# Altium footprint library VioletofSun.PcbLib: 319 footprints (part 13 of 20)
Each footprint in its own frame and in the unit in brackets; x right, y up, seen from the top. Pads: shape width x height; smd on the part's side, far side on the other; paste and mask are expansions set on the pad; w line width, h text height; cw(c..) or ccw(c..) is an arc to the next point about the centre after c.
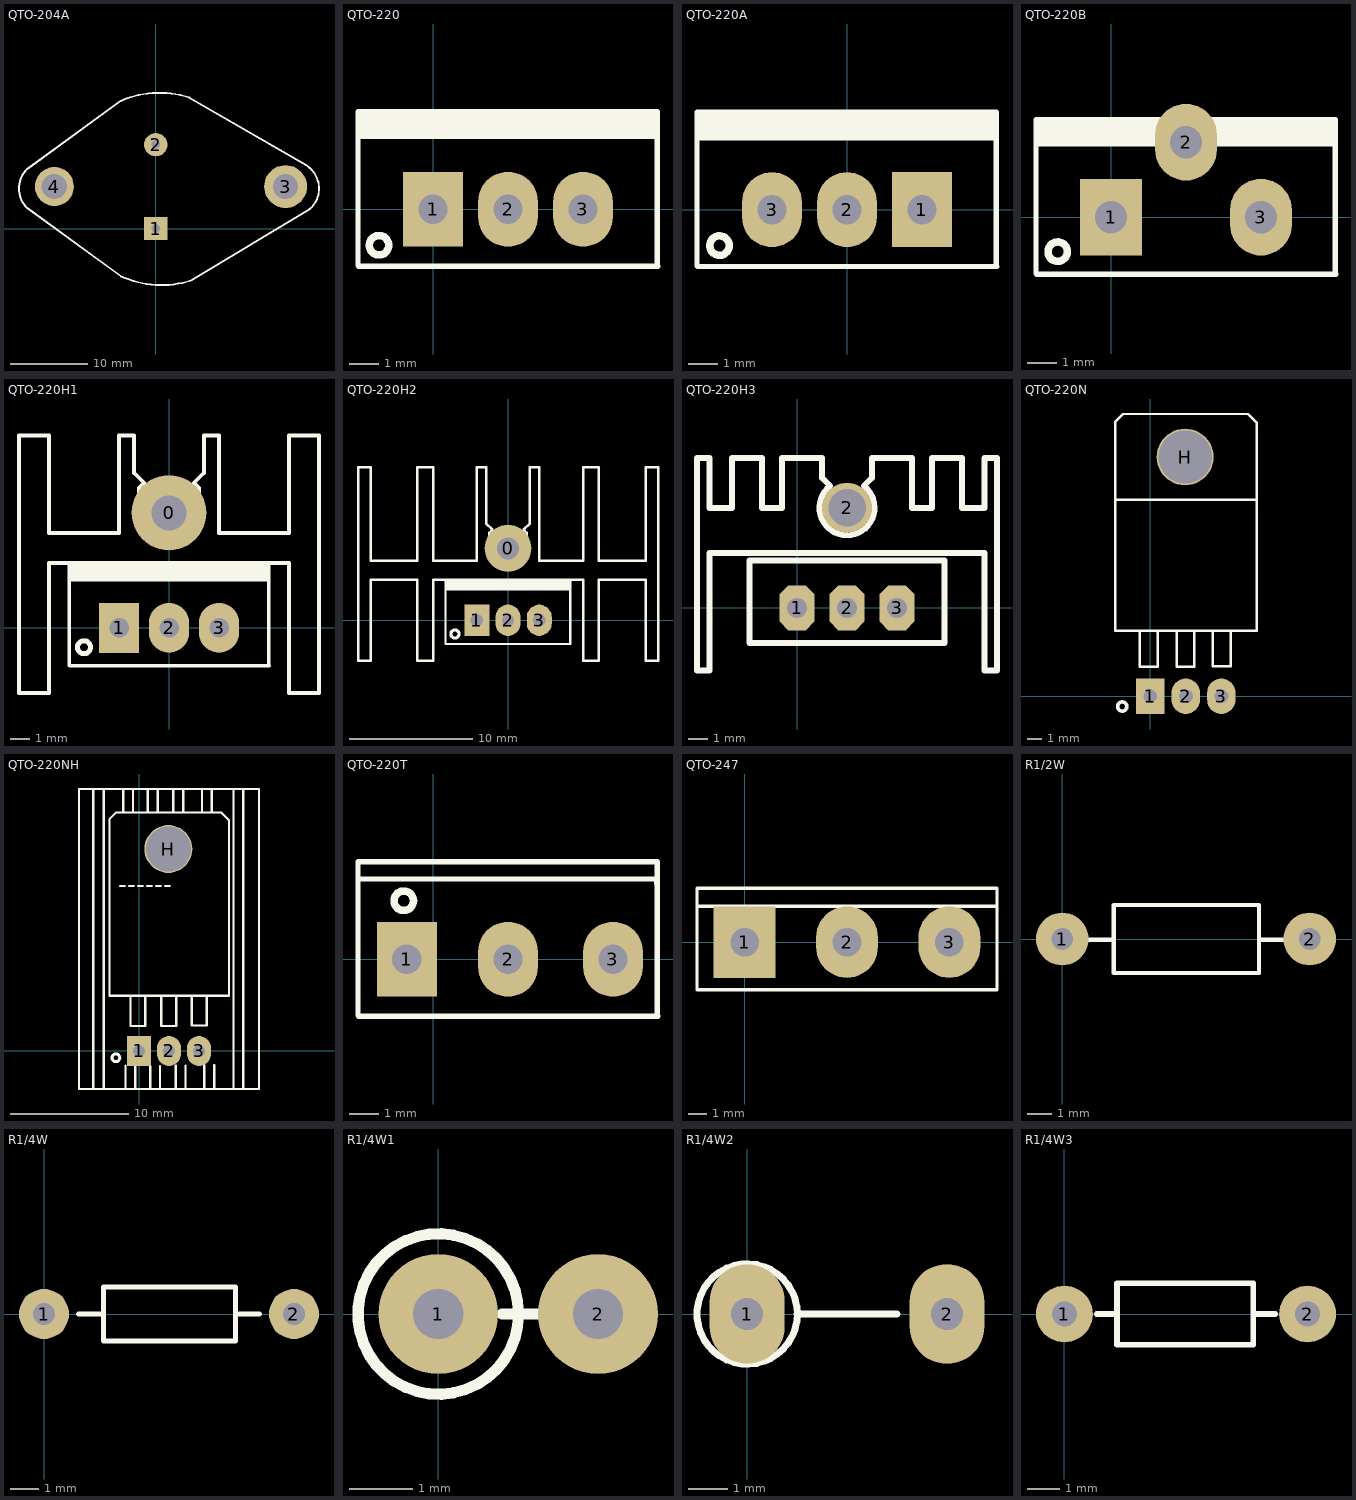
[diagram p12: the footprints below, top view; thin cyan lines are the x and y axes]

## QTO-204A [mil] "Pin For 2N3055, 2N2955"
pads (4):
  rect 120x120 hole 45: 1(0,0)
  round 120 hole 45: 2(0,430)
  round 220 hole 130: 3(665,215)
  round 200 hole 130: 4(-520,215)
Top Overlay:
  lines w10: -660,105 cw(c-560,205) -660,305 -179.46,654.16 ; -659.88,104.89 -178.69,-244.72 ; -179.53,654.34 cw(c18.37,195.17) 171.59,671.11 ; -178.9,-245.19 ccw(c28.37,209.83) 180.47,-266.47 ; 171.46,670.71 769.34,325.52 ; 180.28,-266.15 789.88,100.13 ccw(c695,205) 769.25,325.36

## QTO-220 [mil] "TO-220 - 1-2-3"
height 200
pads (3):
  rect 80x100 hole 39: 1(0,0)
  oval 80x100 hole 39: 2(100,0) 3(200,0)
Top Overlay:
  circle w10: c-72.03,-48 r12.97
  rectangle: -99,94 300,130
  lines w7: 298,107 299,93 ; -100,-75 -100,130 299,130 299,-75 300,-76 -76,-76 -99,-76 -100,-75
3D body: height 904.72, standoff -250, extent -119,-64 322.46,120.65

## QTO-220A [mil] "TO-220 - 3-2-1"
height 200
pads (3):
  rect 80x100 hole 39: 1(100,0)
  oval 80x100 hole 39: 2(0,0) 3(-100,0)
Top Overlay:
  circle w10: c-170.03,-48 r12.97
  rectangle: -200,92 199,131
  lines w7: 198,107 199,93 ; -200,-75 -199,-76 -176,-76 200,-76 199,-75 199,130 -200,130 -200,-75
3D body: height 910.24, standoff -222.83, extent -194.88,-81 194.88,96.17

## QTO-220B [mm] "TO-220 - 1-2-3"
height 5.08
pads (3):
  rect 2.1x2.6 hole 1.1: 1(0,0)
  oval 2.1x2.6 hole 1.1: 2(2.54,2.54) 3(5.08,0)
Top Overlay:
  circle w0.254: c-1.804,-1.168 r0.329
  rectangle: -2.515,2.388 7.62,3.302
  lines w0.178: 7.569,2.718 7.595,2.362 ; -2.54,-1.905 -2.515,-1.93 -1.93,-1.93 7.62,-1.93 7.595,-1.905 7.595,3.302 -2.54,3.302 -2.54,-1.905
3D body: height 20.58, standoff -8.2, extent -2.356,-2.062 7.544,2.438

## QTO-220H1 [mil] "TO-220 - 1-2-3"
height 200
pads (4):
  round 150 hole 70: 0(0,230)
  rect 80x100 hole 39: 1(-100,0)
  oval 80x100 hole 39: 2(0,0) 3(100,0)
Top Overlay:
  circle w10: c-170.03,-39 r12.97
  rectangle: -201,93 198,129
  lines w7: -200,100 198.5,100 199,93 ; -200,-75 -199,-76 -176,-76 200,-76 199,-75 199,130 -200,130 -200,-75
  lines w8: -300,-130 -300,385 -240,385 -240,190 -100,190 -100,385 -70,385 -70,310 -50,290 -60,280 -60,210 -40,190 40,190 60,210 60,280 50,290 70,310 70,385 100,385 100,190 240,190 240,385 300,385 300,-130 240,-130 240,130 -240,130 -240,-130 -300,-130
3D body: height 1000, standoff -122.05, extent -246,73.03 250.06,328.97
3D body: height 850.24, standoff -282.83, extent -194.88,-82 194.88,95.17

## QTO-220H2 [mil] "TO-220 - 1-2-3"
height 200
pads (4):
  round 150 hole 70: 0(0,230)
  rect 80x100 hole 39: 1(-100,0)
  oval 80x100 hole 39: 2(0,0) 3(100,0)
Top Overlay:
  circle w10: c-169.97,-44 r12.97
  rectangle: -201,95 198,131
  lines w7: -200,100 198.5,100 199,93 ; -200,-75 -199,-76 -176,-76 200,-76 199,-75 199,130 -200,130 -200,-75
  lines w8: -480,-130 -480,490 -440,490 -440,190 -290,190 -290,490 -240,490 -240,190 -100,190 -100,490 -70,490 -70,310 -50,290 -60,280 -60,210 -40,190 40,190 60,210 60,280 50,290 70,310 70,490 100,490 100,190 240,190 240,490 290,490 290,190 440,190 440,490 480,490 480,-130 440,-130 440,130 290,130 290,-130 240,-130 240,130 -240,130 -240,-130 -290,-130 -290,130 -440,130 -440,-130 -480,-130
3D body: height 810.24, standoff -322.83, extent -194.76,-82.17 195,95
3D body: height 1205.51, standoff 0, extent -448.79,-177 452.79,468.67

## QTO-220H3 [mil] "TO-220 1-2-3"
pads (4):
  oct 70x90 hole 40: 1(0,0) 2(100,0) 3(200,0)
  round 100 hole 75: 2(100,200)
Top Overlay:
  lines w12: 66,244 50,260 50,300 -30,300 -30,200 -70,200 -70,300 -130,300 -130,200 -175,200 -175,300 -200,300 -200,-125 -175,-125 -175,110 375,110 375,-125 400,-125 400,300 375,300 375,200 330,200 330,300 270,300 270,200 230,200 230,300 150,300 150,260 133.59,243.59 ; 66.37,243.52 ccw(c100,200) 133.77,243.41 ; -95,-70 295,-70 295,95 -95,95 -95,-70
3D body: height 322.83, standoff -810.24, extent -96.88,-76.17 292.88,101
3D body: height 984.25, standoff -149.61, extent -189.97,-102.25 391.97,323

## QTO-220N [mil] "TO-220 - 1-2-3"
height 200
pads (4):
  rect 80x100 hole 39: 1(0,0)
  oval 80x100 hole 39: 2(100,0) 3(200,0)
  round 160 hole 150: H(98,673)
Top Overlay:
  circle w10: c-79.03,-29 r12.97
  lines w7: -99,549 -99,772 -77,794 275,794 300,769 300,730 ; -99,552 -99,184 300,184 300,553 -98,553 ; -29,178 -29,83 21,83 21,180 20,181 ; 74,178 74,83 124,83 124,180 123,181 ; 176,180 176,85 226,85 226,182 225,183 ; 300,552 300,733
3D body: height 121, standoff -160, extent -48,-10.31 252,792.31

## QTO-220NH [mil] "TO-220 - 1-2-3"
height 200
pads (4):
  rect 80x100 hole 39: 1(0,0)
  oval 80x100 hole 39: 2(100,0) 3(200,0)
  round 160 hole 150: H(98,673)
Top Overlay:
  circle w10: c-77.03,-23 r12.97
  lines w7: -99,549 -99,772 -77,794 275,794 300,769 300,730 ; -99,552 -99,184 300,184 300,553 ; -29,178 -29,83 21,83 21,180 20,181 ; 74,178 74,83 124,83 124,180 123,181 ; 176,180 176,85 226,85 226,182 225,183 ; 300,552 300,733
  lines w8: -152,-127 -152,873 ; -117,-127 -117,873 ; -53,796 -53.01,869.97 ; -45,-124 -45.01,-50.03 ; -20,796 -20.01,869.97 ; -12,-124 -12.01,-50.03 ; 29,795 28.99,868.97 ; 37,-125 36.99,-51.03 ; 62,795 61.99,868.97 ; 70,-125 69.99,-51.03 ; 114,796 113.99,869.97 ; 122,-124 121.99,-50.03 ; 147,796 146.99,869.97 ; 155,-124 154.99,-50.03 ; 210,798 209.99,871.97 ; 218,-122 217.99,-48.03 ; 243,798 242.99,871.97 ; 251,-122 250.99,-48.03 ; 315,-127 315,873 ; 348,-127 348,873 ; -200,-127 -200,873 400,873 400,-127 -200,-127
  text "------" at -69,527 h60
3D body: height 165.35, standoff -118.11, extent -100,-3.66 300,763.66

## QTO-220T [mil] "TO-220 - 1-2-3"
height 200
pads (3):
  rect 80x100 hole 39: 1(-35,0)
  oval 80x100 hole 39: 2(100,0) 3(240,0)
Top Overlay:
  circle w10: c-38.97,78 r12.97
  lines w7: -100,107 298,107 299,93 ; -100,-75 -100,130 299,130 299,-75 300,-76 -76,-76 -99,-76 -100,-75
3D body: height 722.05, standoff -293.7, extent -104.76,-64.17 300.76,113

## QTO-247 [mil] "TO-247"
height 200
pads (3):
  rect 130x150 hole 60: 1(0,0)
  oval 130x150 hole 60: 2(215,0) 3(430,0)
Top Overlay:
  lines w7: -100,75 529,75 ; -100,-100 530,-100 530,113 -100,113 -100,-100
3D body: height 1110, standoff -310, extent -87,-103 513,77

## R1/2W [mil] "R 1/2W, 2 pin, 300mil"
height 100
pads (2):
  round 85 hole 35: 1(0,0) 2(400,0)
Top Overlay:
  lines w7: 42,-1 83,-1 ; 318,-1 356,-1 ; 83,-55 83,55 318,55 318,-55 83,-55
3D body: height 91.42, standoff -70, extent -11.6,-45.49 413.6,49

## R1/4W [mil] "R 1/4W, 2 Pin, 350mil"
height 100
pads (2):
  round 70 hole 31: 1(0,0) 2(350,0)
Top Overlay:
  lines w7: 48,0 83,0 ; 268,0 302,0 ; 83,-38 268,-38 268,38 83,38 83,-38
3D body: height 111.42, standoff -50, extent -39.6,-47 385.6,47.49

## R1/4W1 [mm] "R 1/4W, 2 Pin, 150mil"
height 2.54
pads (2):
  round 1.905 hole 0.8: 1(0,0) 2(2.54,0)
Top Overlay:
  circle w0.178: c0,0 r1.276
  lines w0.178: 1.016,0 1.651,0
3D body: height 7.3, standoff -1.45, extent -0.889,-0.92 2.823,0.92

## R1/4W2 [mil] "R 1/4W, 2 Pin, 200mil"
height 100
pads (2):
  oval 75x100 hole 32: 1(0,0) 2(200,0)
Top Overlay:
  circle w7: c0,0 r50.25
  lines w7: 50,0 150,0

## R1/4W3 [mil] "R 1/4W, 2 Pin, 350mil"
height 100
pads (2):
  round 70 hole 31: 1(0,0) 2(300,0)
Top Overlay:
  lines w7: 40,0 65,0 ; 233,0 260,0 ; 65,-38 233,-38 233,38 65,38 65,-38
3D body: height 79.37, standoff -78.11, extent -9.45,-40 309.45,38.74